# Altium footprint library HUE.PcbLib: 49 footprints (part 1 of 4)
Each footprint in its own frame and in the unit in brackets; x right, y up, seen from the top. Pads: shape width x height; smd on the part's side, far side on the other; paste and mask are expansions set on the pad; w line width, h text height; cw(c..) or ccw(c..) is an arc to the next point about the centre after c.
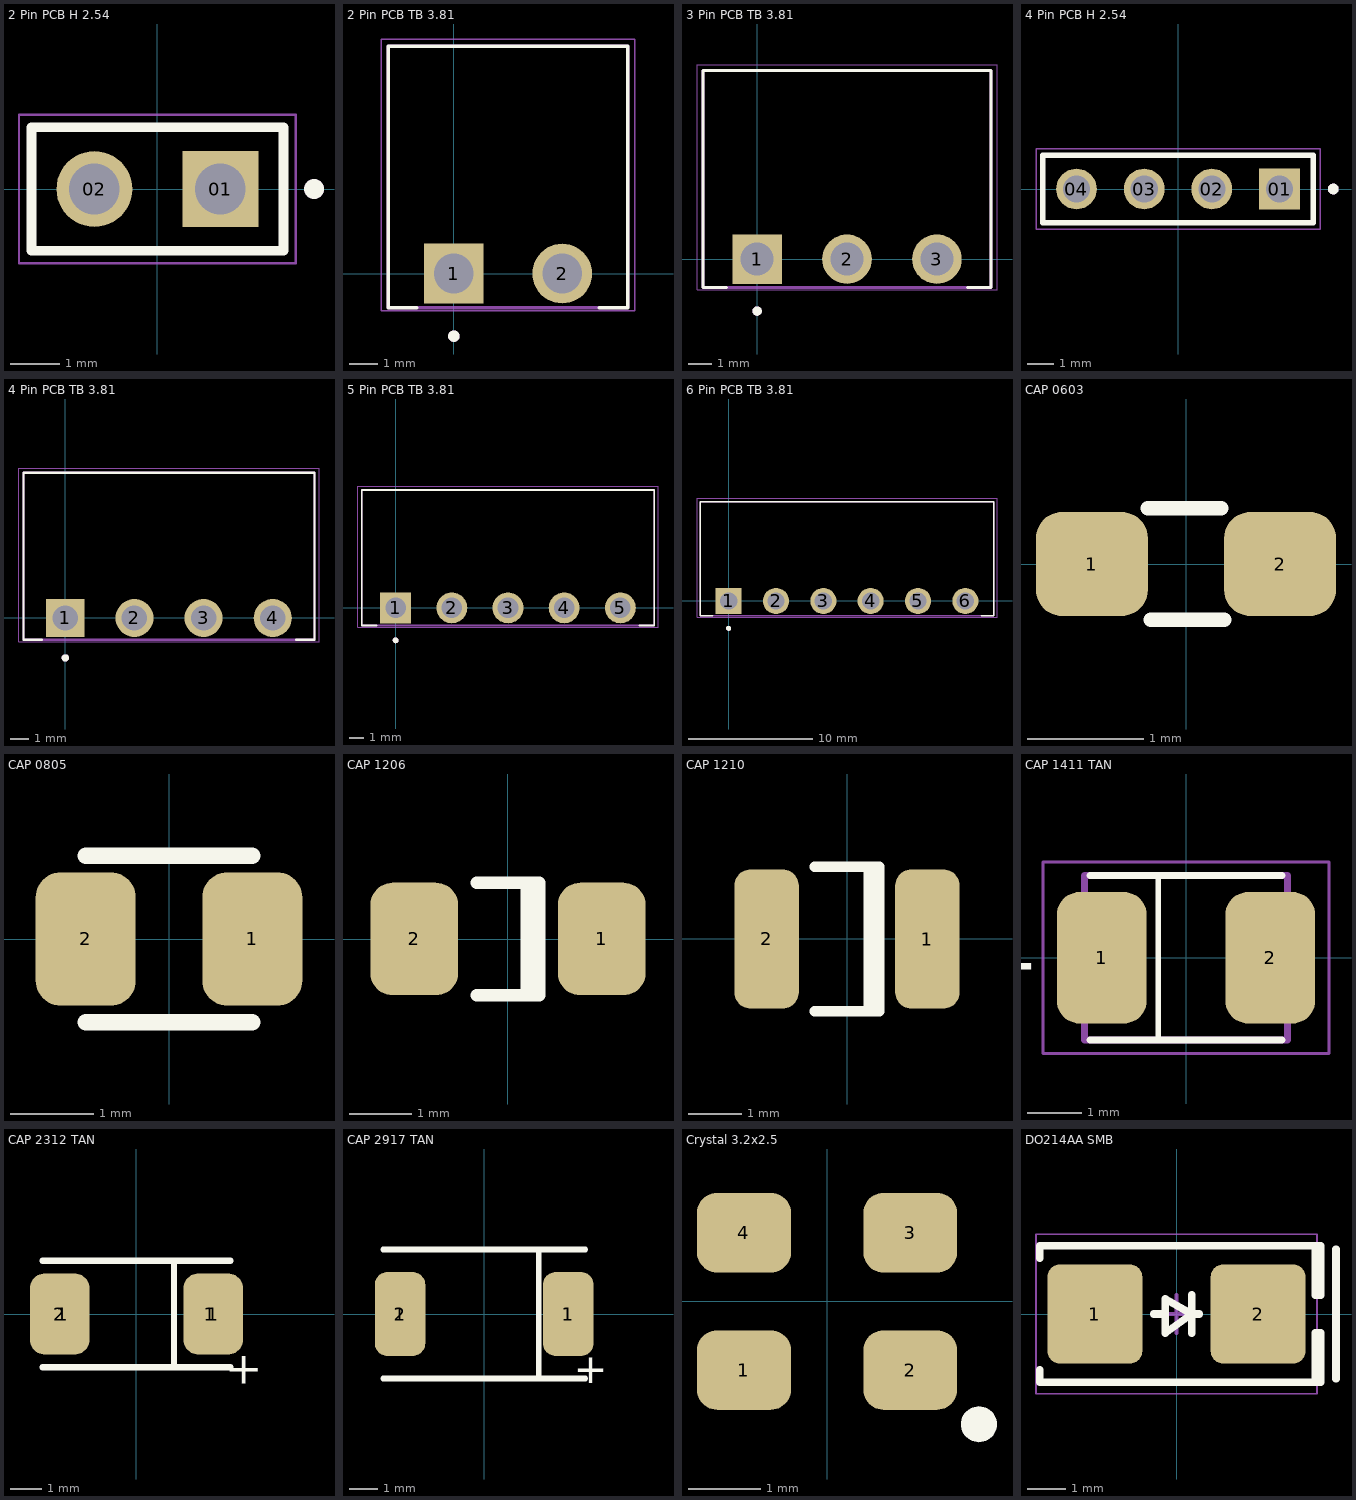
[diagram p0: the footprints below, top view; thin cyan lines are the x and y axes]

## 2 Pin PCB H 2.54 [mm]
pads (2):
  rect 1.53x1.53 hole 1.02: 01(1.27,0)
  round 1.53 hole 1.02: 02(-1.27,0)
Top Overlay:
  circle w0.2: c3.16,0 r0.1
  lines w0.2: -2.54,-1.245 -2.54,1.245 2.54,1.245 2.54,-1.245 -2.54,-1.245
Mechanical 13:
  circle w0.2: c3.16,0 r0.1
  lines w0.1: -2.54,-1.245 -2.54,1.245 2.54,1.245 2.54,-1.245 -2.54,-1.245
Mechanical 15:
  lines w0.05: -2.79,-1.495 -2.79,1.495 2.79,1.495 2.79,-1.495 -2.79,-1.495
3D body "2 Pin PCB Header 2.54.stp": height 5.84, standoff -5.08, extent -2.54,-1.245 2.54,1.245

## 2 Pin PCB TB 3.81 [mm]
pads (2):
  rect 2.1x2.1 hole 1.4: 1(0,0)
  round 2.1 hole 1.4: 2(3.81,0)
Top Overlay:
  circle w0.2: c0,-2.2 r0.1
  lines w0.127: -1.3,-1.2 -2.3,-1.2 -2.3,8 6.11,8 6.11,-1.2 5.11,-1.2
Mechanical 13:
  circle w0.2: c0,-2.2 r0.1
  lines w0.127: -2.3,-1.2 6.11,-1.2 6.11,8 -2.3,8 -2.3,-1.2
Mechanical 15:
  lines w0.05: -2.55,-1.3 -2.55,8.25 6.36,8.25 6.36,-1.3 -2.55,-1.3
3D body "2 Pin PCB Terminal Block 3.81.step": height 3, standoff -7.7, extent -2.3,-1.2 6.11,8

## 3 Pin PCB TB 3.81 [mm]
pads (3):
  rect 2.1x2.1 / inner round 2.1 / far side rect 2.1x2.1 hole 1.4: 1(0,0)
  round 2.1 hole 1.4: 2(3.81,0) 3(7.62,0)
Top Overlay:
  circle w0.2: c0,-2.2 r0.1
  lines w0.127: -1.3,-1.2 -2.3,-1.2 -2.3,8 9.92,8 9.92,-1.2 8.92,-1.2
Mechanical 13:
  circle w0.2: c0,-2.2 r0.1
  lines w0.127: -2.3,-1.2 -2.3,8 9.92,8 9.92,-1.2 -2.3,-1.2
Mechanical 15:
  lines w0.05: -2.55,-1.3 10.17,-1.3 10.17,8.25 -2.55,8.25 -2.55,-1.3
3D body "3 Pin PCB Terminal Block 3.81.step": height 3, standoff -7.7, extent -2.3,-1.2 9.92,8

## 4 Pin PCB H 2.54 [mm]
pads (4):
  rect 1.53x1.53 / inner round 1.53 / far side rect 1.53x1.53 hole 1.02: 01(3.81,0)
  round 1.53 hole 1.02: 02(1.27,0) 03(-1.27,0) 04(-3.81,0)
Top Overlay:
  circle w0.2: c5.83,0 r0.1
  lines w0.2: -5.08,-1.27 -5.08,1.27 5.08,1.27 5.08,-1.27 -5.08,-1.27
Mechanical 13:
  circle w0.2: c5.83,0 r0.1
  lines w0.1: -5.08,-1.27 -5.08,1.27 5.08,1.27 5.08,-1.27 -5.08,-1.27
Mechanical 15:
  lines w0.05: -5.33,-1.52 -5.33,1.52 5.33,1.52 5.33,-1.52 -5.33,-1.52
3D body "4 Pin PCB Header 2.54.STEP": height 8.54, standoff -3, extent -5.08,-1.245 5.08,1.245

## 4 Pin PCB TB 3.81 [mm]
pads (4):
  rect 2.1x2.1 / inner round 2.1 / far side rect 2.1x2.1 hole 1.4: 1(0,0)
  round 2.1 hole 1.4: 2(3.81,0) 3(7.62,0) 4(11.43,0)
Top Overlay:
  circle w0.2: c0,-2.2 r0.1
  lines w0.127: -1.3,-1.2 -2.3,-1.2 -2.3,8 13.73,8 13.73,-1.2 12.73,-1.2
Mechanical 13:
  circle w0.2: c0,-2.2 r0.1
  lines w0.127: -2.3,-1.2 13.73,-1.2 13.73,8 -2.3,8 -2.3,-1.2
Mechanical 15:
  lines w0.05: -2.55,-1.3 -2.55,8.25 13.98,8.25 13.98,-1.3 -2.55,-1.3
3D body "4 Pin PCB Terminal Block 3.81.step": height 3, standoff -7.7, extent -2.3,-1.2 13.73,8

## 5 Pin PCB TB 3.81 [mm]
pads (5):
  rect 2.1x2.1 / inner round 2.1 / far side rect 2.1x2.1 hole 1.4: 1(0,0)
  round 2.1 hole 1.4: 2(3.81,0) 3(7.62,0) 4(11.43,0) 5(15.24,0)
Top Overlay:
  circle w0.2: c0,-2.2 r0.1
  lines w0.127: -1.3,-1.2 -2.3,-1.2 -2.3,8 17.54,8 17.54,-1.2 16.54,-1.2
Mechanical 13:
  circle w0.2: c0,-2.2 r0.1
  lines w0.127: -2.3,-1.2 -2.3,8 17.54,8 17.54,-1.2 -2.3,-1.2
Mechanical 15:
  lines w0.05: -2.55,-1.3 17.79,-1.3 17.79,8.25 -2.55,8.25 -2.55,-1.3
3D body "5 Pin PCB Terminal Block 3.81.step": height 3, standoff -7.7, extent -2.3,-1.2 17.54,8

## 6 Pin PCB TB 3.81 [mm]
pads (6):
  rect 2.1x2.1 / inner round 2.1 / far side rect 2.1x2.1 hole 1.4: 1(0,0)
  round 2.1 hole 1.4: 2(3.81,0) 3(7.62,0) 4(11.43,0) 5(15.24,0) 6(19.05,0)
Top Overlay:
  circle w0.2: c0,-2.2 r0.1
  lines w0.127: -1.3,-1.2 -2.3,-1.2 -2.3,8 21.35,8 21.35,-1.2 20.35,-1.2
Mechanical 13:
  circle w0.2: c0,-2.2 r0.1
  lines w0.127: -2.3,-1.2 21.35,-1.2 21.35,8 -2.3,8 -2.3,-1.2
Mechanical 15:
  lines w0.05: -2.55,-1.3 -2.55,8.25 21.6,8.25 21.6,-1.3 -2.55,-1.3
3D body "6 Pin PCB Terminal Block 3.81.step": height 3, standoff -7.7, extent -2.3,-1.2 21.35,8

## CAP 0603 [mm] "Ceramic Capacitor 0603 (1608)"
height 0.5
pads (2):
  rrect50% 0.965x0.9 smd: 1(-0.813,0) 2(0.813,0)
Top Overlay:
  lines w0.125: -0.33,0.483 0.305,0.483 ; -0.305,-0.483 0.33,-0.483
3D body "Cap 0603.STEP": height 0.41, standoff -0.41, extent -0.8,-0.457 0.8,0.443

## CAP 0805 [mm] "Ceramic Capacitor 1206  (3216)"
height 0.8
pads (2):
  rrect50% 1.2x1.6 smd: 1(1,0) 2(-1,0)
Top Overlay:
  lines w0.2: -1,-1 1,-1 ; -1,1 1,1
3D body "Cap 0805.stp": height 0.78, standoff 0, extent -1,-0.625 1,0.625

## CAP 1206 [mm] "Ceramic Capacitor 1206  (3216)"
height 1
pads (2):
  rrect50% 1.4x1.8 smd: 1(1.5,0) 2(-1.5,0)
Top Overlay:
  lines w0.2: -0.5,-0.9 0.5,-0.9 0.5,0.9 -0.5,0.9 ; 0.3,-0.9 0.3,0.9
3D body "Cap 1206.STEP": height 1.65, standoff 0.05, extent -1.6,-0.9 1.6,0.88

## CAP 1210 [mm] "Ceramic Capacitor 1210 (3225)"
height 2.5
pads (2):
  rrect50% 1.2x2.6 smd: 1(1.5,0) 2(-1.5,0)
Top Overlay:
  lines w0.2: -0.6,-1.35 0.6,-1.35 0.6,1.35 -0.6,1.35 ; 0.41,-1.35 0.41,1.35
3D body "Cap 1210.STEP": height 2.55, standoff 0.05, extent -1.65,-1.4 1.65,1.4

## CAP 1411 TAN [mm]
pads (2):
  rrect50% 1.64x2.4 smd: 1(-1.54,0) 2(1.54,0)
Top Overlay:
  lines w0.1: -0.508,-1.5 -0.508,1.5 -0.457,1.5
  lines w0.127: -1.75,-1.5 1.75,-1.5 ; -1.75,1.5 1.75,1.5
  text "+" at -2.667,0.635 h1.8
Mechanical 13:
  lines w0.127: -1.85,-1.5 -1.85,1.5 1.85,1.5 1.85,-1.5 -1.85,-1.5
Mechanical 15:
  lines w0.05: -2.61,-1.75 -2.61,1.75 2.61,1.75 2.61,-1.75 -2.61,-1.75
3D body "Cap TAN 1411.STEP": height 2.1, standoff 0, extent -1.75,-1.4 1.75,1.4

## CAP 2312 TAN [mm] "Tantalum Capacitor 2312 (6032-28)"
height 2.6
pads (4):
  rect 1.3x2.2 on Mech15: 1(-2.35,0) 1(2.35,0)
  rrect50% 1.9x2.6 smd: 1(2.45,0) 2(-2.45,0)
Top Overlay:
  lines w0.2: -3,-1.7 3,-1.7 ; -3,1.7 3,1.7 ; 1.2,-1.7 1.2,1.6
  text "+" at 4.025,-1 h1.8
3D body: height 2.72, standoff 2.71, extent 2.05,-0.2 2.15,0.2
3D body: height 2.72, standoff 2.71, extent 1.9,-0.05 2.3,0.05
3D body "Cap TAN 2312.STEP": height 2.8, standoff 0, extent -3.1,-1.6 2.9,1.6

## CAP 2917 TAN [mm] "Tantalum Capacitor 2917 (7343-43)"
height 4.1
pads (4):
  rrect50% 1.3x2.4 on Mech15: 1(-3,0) 1(3,0)
  rrect50% 1.8x3 smd: 1(3,0) 2(-3,0)
Top Overlay:
  lines w0.2: -3.6,-2.3 3.6,-2.3 ; -3.6,2.3 3.6,2.3 ; 1.95,-2.3 1.95,2.3
  text "+" at 4.4,-1.2 h1.8
3D body "Cap TAN 2917.STEP": height 3.1, standoff 0, extent -3.75,-2.15 3.55,2.15

## Crystal 3.2x2.5 [mm] "3.2mmx2.5mm 4 Pin"
height 0.6
pads (5):
  rrect50% 1.3x1.1 smd: 1(-1.15,-0.95) 2(1.15,-0.95) 3(1.15,0.95) 4(-1.15,0.95)
  round 0.5 on Top Overlay: ""(2.1,-1.7)
Mechanical 15:
  region: 0.6,-1.25 1.6,-1.25 1.6,-0.5 0.8,-0.5 0.6,-0.7
  region: 0.6,1.25 0.6,0.5 1.6,0.5 1.6,1.25
  region: -0.6,1.25 -0.6,0.5 -1.6,0.5 -1.6,1.25
  region: -0.6,-1.25 -0.6,-0.5 -1.6,-0.5 -1.6,-1.25
3D body "Crystal 3225.STEP": height 0.6, standoff 0, extent -1.61,-1.26 1.61,1.26

## DO214AA SMB [mm] "Molded Diode, 2-Leads, Body 4.31x3.62mm, IPC Medium Density"
height 2.44
pads (2):
  rrect25% 2.5x2.6 smd: 1(-2.15,0) 2(2.15,0)
Top Overlay:
  lines w0.2: -3.6,-1.475 -3.6,-1.8 3.8,-1.8 3.8,-0.5 3.65,-0.5 3.65,-1.8 ; -3.6,1.475 -3.6,1.8 3.8,1.8 3.8,0.5 3.65,0.5 3.65,1.8 ; -0.6,0 -0.3,0 ; 0.4,-0.5 0.4,0.5 ; 0.6,0 0.4,0 ; 4.2,-1.7 4.2,1.7 ; 0.4,0 -0.3,0.4 -0.3,-0.5 0.4,0
Mechanical 13:
  lines w0.1: -2.285,-1.8 2.285,-1.8 ; -2.285,1.8 2.285,1.8
Mechanical 15:
  lines w0.05: -3.7,-2.1 3.7,-2.1 3.7,2.1 -3.7,2.1 -3.7,-2.1
  lines w0.1: -0.5,0 0.5,0 ; 0,-0.5 0,0.5
3D body "DO214AA SMB.STEP": height 2.4, standoff 0, extent -2.6,-1.8 2.6,1.799